# Altium footprint library SamacSys.PcbLib: 28 footprints (part 1 of 2)
Each footprint in its own frame and in the unit in brackets; x right, y up, seen from the top. Pads: shape width x height; smd on the part's side, far side on the other; paste and mask are expansions set on the pad; w line width, h text height; cw(c..) or ccw(c..) is an arc to the next point about the centre after c.
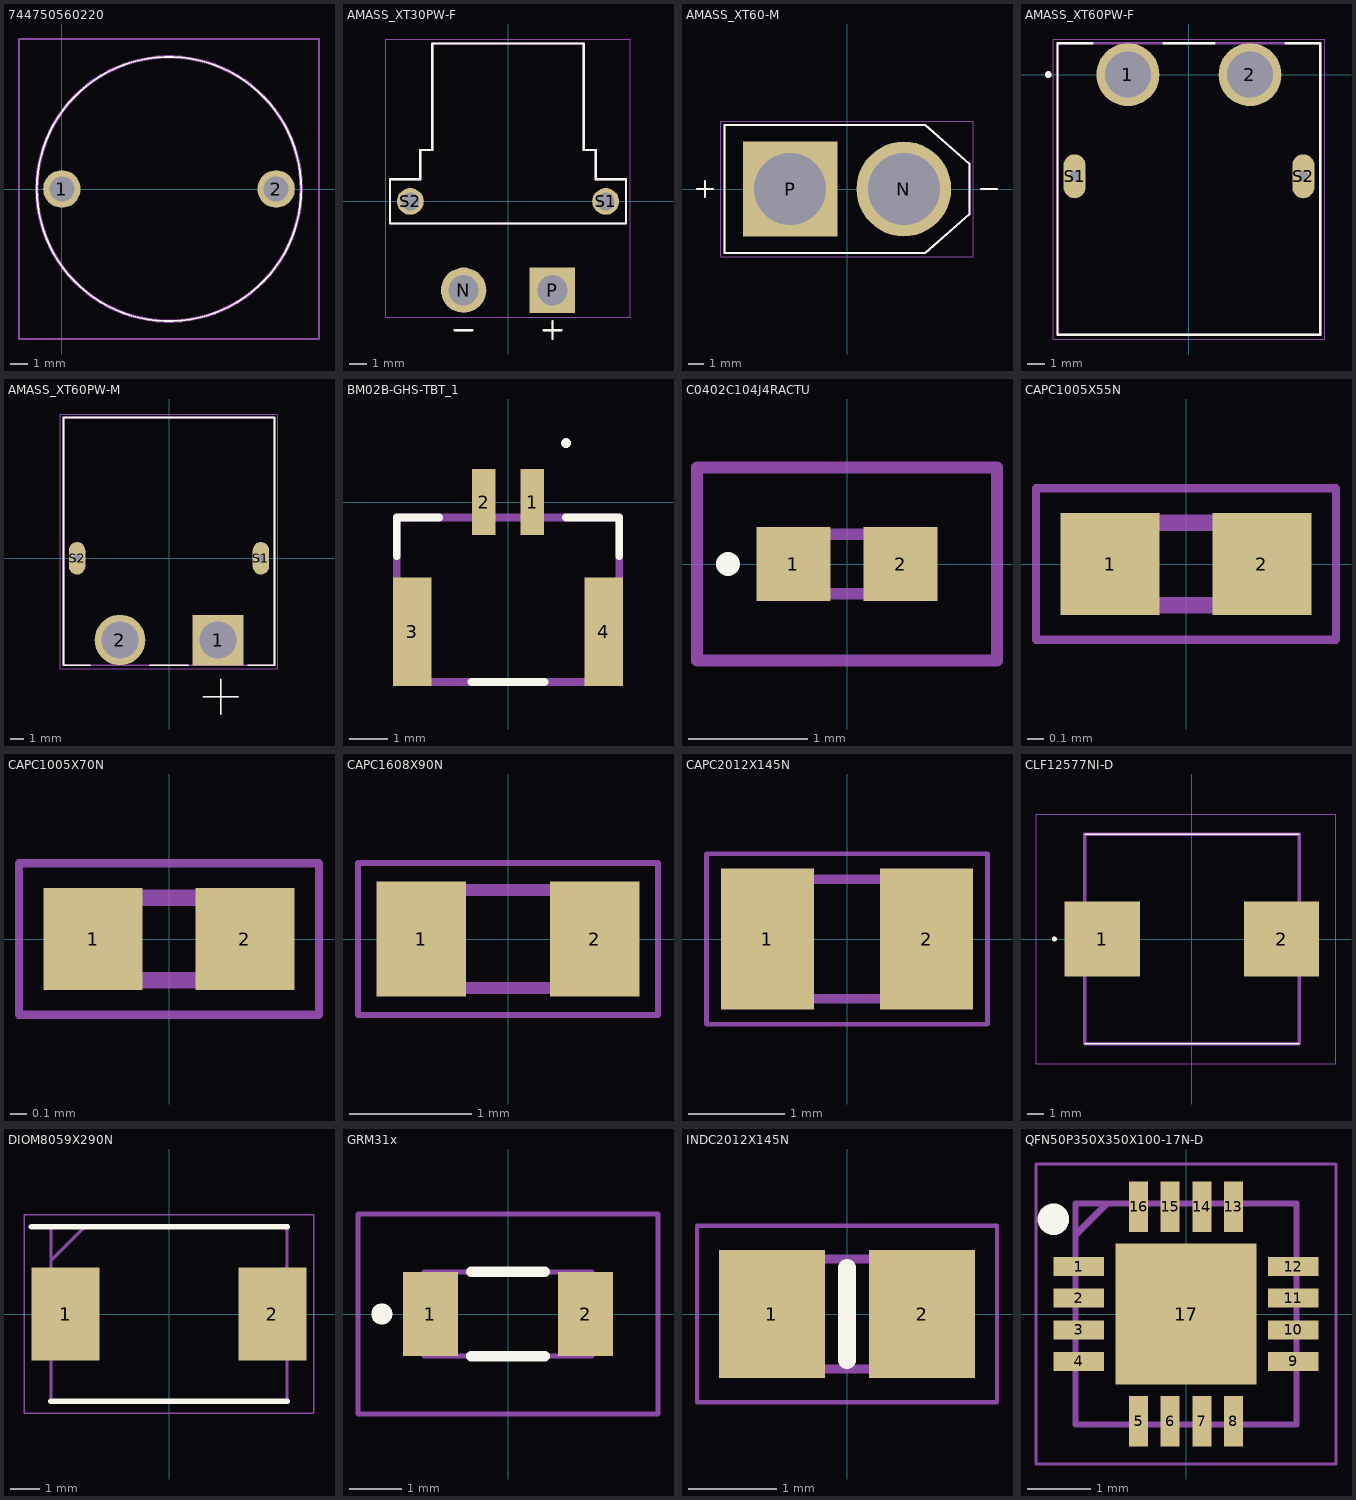
[diagram p0: the footprints below, top view; thin cyan lines are the x and y axes]

## 744750560220 [mm]
pads (2):
  round 2.1 hole 1.4: 1(0,0) 2(12,0)
Top Overlay:
  lines w0.1: -1.4,0 ccw(c6,0) 13.4,0 ccw(c6,0) -1.4,0
Mechanical 13:
  lines w0.2: -1.4,0 ccw(c6,0) 13.4,0 ccw(c6,0) -1.4,0
Mechanical 15:
  lines w0.1: -2.4,-8.4 14.4,-8.4 14.4,8.4 -2.4,8.4 -2.4,-8.4
3D body "744750560220.stp": height 15.9, standoff -5, extent -1.4,-7.4 13.4,7.4

## AMASS_XT30PW-F [mm]
height 5
pads (4):
  round 2.55 hole 1.7: N(-2.5,-5)
  rect 2.55x2.55 / inner round 2.55 / far side rect 2.55x2.55 hole 1.7: P(2.5,-5)
  round 1.508 hole 1: S1(5.5,0) S2(-5.5,0)
Top Overlay:
  lines w0.127: -3,-7.25 -2,-7.25 ; 2,-7.25 3,-7.25 ; 2.5,-7.75 2.5,-6.75 ; -6.65,-1.25 -6.65,1.25 -4.95,1.25 -4.95,2.9 -4.27,2.9 -4.27,8.9 4.27,8.9 4.27,2.9 4.95,2.9 4.95,1.25 6.65,1.25 6.65,-1.25 -6.65,-1.25
Mechanical 13:
  lines w0.127: -3,-7.25 -2,-7.25 ; 2,-7.25 3,-7.25 ; 2.5,-7.75 2.5,-6.75 ; -6.65,-1.25 -6.65,1.25 -4.95,1.25 -4.95,2.9 -4.27,2.9 -4.27,8.9 4.27,8.9 4.27,2.9 4.95,2.9 4.95,1.25 6.65,1.25 6.65,-1.25 -6.65,-1.25
Mechanical 15:
  lines w0.05: -6.9,-6.525 -6.9,9.15 6.9,9.15 6.9,-6.525 -6.9,-6.525
3D body "step_temp.STEP": height 5, standoff -2, extent -6.65,-6 6.65,8.9

## AMASS_XT60-M [mm]
height 16
pads (2):
  round 6 hole 4.55: N(3.6,0)
  rect 6x6 / inner round 6 / far side rect 6x6 hole 4.55: P(-3.6,0)
Top Overlay:
  lines w0.127: -9.5,0 -8.5,0 ; -9,-0.5 -9,0.5 ; 8.5,0 9.5,0 ; -7.75,-4.05 -7.75,4.05 4.95,4.05 7.75,1.6 7.75,-1.6 4.95,-4.05 -7.75,-4.05
Mechanical 13:
  lines w0.127: -9.5,0 -8.5,0 ; -9,-0.5 -9,0.5 ; 8.5,0 9.5,0 ; -7.75,-4.05 -7.75,4.05 4.95,4.05 7.75,1.6 7.75,-1.6 4.95,-4.05 -7.75,-4.05
Mechanical 15:
  lines w0.05: -8,-4.3 8,-4.3 8,4.3 -8,4.3 -8,-4.3
3D body "step_temp.STEP": height 16, standoff -4.5, extent -7.75,-4.05 7.75,4.05

## AMASS_XT60PW-F [mm]
height 8.4
pads (4):
  round 3.716 hole 2.7: 1(-3.6,0) 2(3.6,0)
  oval 1.3x2.6 hole 0.6 square: S1(-6.75,-6) S2(6.75,-6)
Top Overlay:
  circle w0.2: c-8.3,0 r0.1
  lines w0.127: -5.71,1.85 -7.75,1.85 -7.75,-15.35 7.75,-15.35 7.75,1.85 5.71,1.85 ; -1.49,1.85 1.49,1.85
Mechanical 13:
  circle w0.2: c-8.3,0 r0.1
  lines w0.127: -7.75,-15.35 -7.75,1.85 7.75,1.85 7.75,-15.35 -7.75,-15.35
Mechanical 15:
  lines w0.05: -8,-15.6 -8,2.1 8,2.1 8,-15.6 -8,-15.6
3D body "step_temp.STEP": height 8.4, standoff -2.55, extent -7.75,-15.35 7.75,1.85

## AMASS_XT60PW-M [mm]
height 8.4
pads (4):
  rect 3.716x3.716 / inner round 3.716 / far side rect 3.716x3.716 hole 2.7: 1(3.6,-6)
  round 3.716 hole 2.7: 2(-3.6,-6)
  oval 1.2x2.4 hole 0.6 square: S1(6.75,0) S2(-6.75,0)
Top Overlay:
  lines w0.127: -5.778,-7.85 -7.75,-7.85 -7.75,10.35 7.75,10.35 7.75,-7.85 5.778,-7.85 ; -1.422,-7.85 1.422,-7.85 ; 2.54,-10.16 3.81,-10.16 ; 3.81,-11.43 3.81,-10.16 ; 3.81,-8.89 3.81,-10.16 ; 5.08,-10.16 3.81,-10.16
Mechanical 13:
  lines w0.127: 2.54,-10.16 3.81,-10.16 ; 3.81,-11.43 3.81,-10.16 ; 3.81,-8.89 3.81,-10.16 ; 5.08,-10.16 3.81,-10.16 ; -7.75,-7.85 -7.75,10.35 7.75,10.35 7.75,-7.85 -7.75,-7.85
Mechanical 15:
  lines w0.05: -8,-8.11 -8,10.6 8,10.6 8,-8.11 -8,-8.11
3D body "step_temp.STEP": height 8.4, standoff -2.55, extent -7.75,-7.85 7.75,10.35

## BM02B-GHS-TBT_1 [mm]
pads (4):
  rect 0.6x1.7 smd: 1(0.625,0) 2(-0.625,0)
  rect 1x2.8 smd: 3(-2.475,-3.35) 4(2.475,-3.35)
Top Overlay:
  circle w0.2: c1.5,1.524 r0.026
  lines w0.2: -2.875,-1.397 -2.875,-0.4 -1.778,-0.4 ; -0.94,-4.648 0.94,-4.648 ; 1.5,-0.4 2.875,-0.4 2.875,-1.397
Mechanical 13:
  lines w0.2: -2.875,-4.65 -2.875,-0.4 2.875,-0.4 2.875,-4.65 -2.875,-4.65
3D body "BM02B-GHS-TBT_LF__SN_.stp": height 4.21, standoff 0.01, extent -2.875,-4.285 2.875,0.665

## C0402C104J4RACTU [mm]
pads (2):
  rect 0.62x0.62 smd: 1(-0.45,0) 2(0.45,0)
Top Overlay:
  lines w0.1: -1,-0.05 ccw(c-1,0) -1,0.05 ccw(c-1,0) -1,-0.05
Mechanical 13:
  lines w0.1: -0.5,-0.25 -0.5,0.25 0.5,0.25 0.5,-0.25 -0.5,-0.25
Mechanical 15:
  lines w0.1: -1.26,-0.81 -1.26,0.81 1.26,0.81 1.26,-0.81 -1.26,-0.81
3D body "C0402C471J5GACTU.stp": height 0.55, standoff 0, extent -0.52,-0.28 0.53,0.27

## CAPC1005X55N [mm]
pads (2):
  rect 0.6x0.62 smd: 1(-0.46,0) 2(0.46,0)
Mechanical 13:
  lines w0.1: -0.5,-0.25 -0.5,0.25 0.5,0.25 0.5,-0.25 -0.5,-0.25
Mechanical 15:
  lines w0.05: -0.91,-0.46 -0.91,0.46 0.91,0.46 0.91,-0.46 -0.91,-0.46
3D body "GJM1555C1H4R6BB01D.stp": height 0.55, standoff 0, extent -0.5,-0.25 0.5,0.25

## CAPC1005X70N [mm]
pads (2):
  rect 0.6x0.62 smd: 1(-0.46,0) 2(0.46,0)
Mechanical 13:
  lines w0.1: -0.5,-0.25 0.5,-0.25 0.5,0.25 -0.5,0.25 -0.5,-0.25
Mechanical 15:
  lines w0.05: -0.91,-0.46 0.91,-0.46 0.91,0.46 -0.91,0.46 -0.91,-0.46
3D body "GRM155R71C103KA01D.stp": height 0.5, standoff 0, extent -0.5,-0.25 0.5,0.25

## CAPC1608X90N [mm]
pads (2):
  rect 0.73x0.94 smd: 1(-0.71,0) 2(0.71,0)
Mechanical 13:
  lines w0.1: -0.8,-0.4 0.8,-0.4 0.8,0.4 -0.8,0.4 -0.8,-0.4
Mechanical 15:
  lines w0.05: -1.225,-0.62 1.225,-0.62 1.225,0.62 -1.225,0.62 -1.225,-0.62
3D body "CL10A475KP8NNNC.stp": height 0.9, standoff 0, extent -0.8,-0.4 0.8,0.4

## CAPC2012X145N [mm]
pads (2):
  rect 0.97x1.47 smd: 1(-0.83,0) 2(0.83,0)
Mechanical 13:
  lines w0.1: -1,-0.625 1,-0.625 1,0.625 -1,0.625 -1,-0.625
Mechanical 15:
  lines w0.05: -1.465,-0.89 1.465,-0.89 1.465,0.89 -1.465,0.89 -1.465,-0.89
3D body "CL21A476MQYNNNG.stp": height 1.45, standoff 0, extent -1,-0.625 1,0.625

## CLF12577NI-D [mm]
pads (2):
  rect 4.5x4.5 smd: 1(-5.35,0) 2(5.35,0)
Top Overlay:
  circle w0.2: c-8.2,0 r0.05
  lines w0.1: -6.4,-6.25 6.4,-6.25 ; -6.4,6.25 6.4,6.25
Mechanical 13:
  lines w0.2: -6.4,-6.25 -6.4,6.25 6.4,6.25 6.4,-6.25 -6.4,-6.25
Mechanical 15:
  lines w0.05: -9.3,-7.45 -9.3,7.45 8.6,7.45 8.6,-7.45 -9.3,-7.45
3D body "CLF12577NIT-220M-D.stp": height 8, standoff 0, extent -6.52,-6.4 6.58,6.4

## DIOM8059X290N [mm]
pads (2):
  rect 2.3x3.15 smd: 1(-3.5,0) 2(3.5,0)
Top Overlay:
  lines w0.2: -4.65,2.952 4,2.952 ; -4,-2.952 4,-2.952
Mechanical 13:
  lines w0.1: -4,1.802 -2.85,2.952 ; -4,-2.952 -4,2.952 4,2.952 4,-2.952 -4,-2.952
Mechanical 15:
  lines w0.05: -4.9,-3.36 -4.9,3.36 4.9,3.36 4.9,-3.36 -4.9,-3.36
3D body "CDBC540-G.stp": height 2.9, standoff 0, extent -4,-2.953 4,2.953

## GRM31x [mm]
pads (2):
  rect 1.05x1.6 smd: 1(-1.475,0) 2(1.475,0)
Top Overlay:
  lines w0.2: -0.7,-0.8 0.7,-0.8 ; -0.7,0.8 0.7,0.8 ; -2.4,-0.1 ccw(c-2.4,0) -2.4,0.1 ccw(c-2.4,0) -2.4,-0.1
Mechanical 13:
  lines w0.1: -1.6,-0.8 -1.6,0.8 1.6,0.8 1.6,-0.8 -1.6,-0.8
Mechanical 15:
  lines w0.1: -2.854,-1.902 -2.854,1.902 2.854,1.902 2.854,-1.902 -2.854,-1.902
3D body "GRM31CD71H106KE11L.stp": height 1, standoff 0, extent -1.6,-0.8 1.6,0.8

## INDC2012X145N [mm]
pads (2):
  rect 1.2x1.45 smd: 1(-0.85,0) 2(0.85,0)
Top Overlay:
  lines w0.2: 0,-0.525 0,0.525
Mechanical 13:
  lines w0.1: -1,-0.625 -1,0.625 1,0.625 1,-0.625 -1,-0.625
Mechanical 15:
  lines w0.05: -1.7,-1 -1.7,1 1.7,1 1.7,-1 -1.7,-1
3D body "MLZ2012P220WT000.stp": height 1.45, standoff 0, extent -1,-0.625 1,0.625

## QFN50P350X350X100-17N-D [mm]
pads (17):
  rect 0.8x0.3 smd: 1(-1.7,0.75) 2(-1.7,0.25) 3(-1.7,-0.25) 4(-1.7,-0.75) 9(1.7,-0.75) 10(1.7,-0.25) 11(1.7,0.25) 12(1.7,0.75)
  rect 0.3x0.8 smd: 5(-0.75,-1.7) 6(-0.25,-1.7) 7(0.25,-1.7) 8(0.75,-1.7) 13(0.75,1.7) 14(0.25,1.7) 15(-0.25,1.7) 16(-0.75,1.7)
  rect 2.24x2.24 smd: 17(0,0)
Top Overlay:
  circle w0.25: c-2.1,1.5 r0.125
Mechanical 13:
  lines w0.1: -1.75,1.25 -1.25,1.75 ; -1.75,-1.75 -1.75,1.75 1.75,1.75 1.75,-1.75 -1.75,-1.75
Mechanical 15:
  lines w0.05: -2.375,-2.375 -2.375,2.375 2.375,2.375 2.375,-2.375 -2.375,-2.375
3D body "BQ24640RVAT.stp": height 1, standoff 0, extent -1.75,-1.75 1.75,1.75